# Altium footprint library Active.PcbLib: 36 footprints (part 1 of 3)
Each footprint in its own frame and in the unit in brackets; x right, y up, seen from the top. Pads: shape width x height; smd on the part's side, far side on the other; paste and mask are expansions set on the pad; w line width, h text height; cw(c..) or ccw(c..) is an arc to the next point about the centre after c.
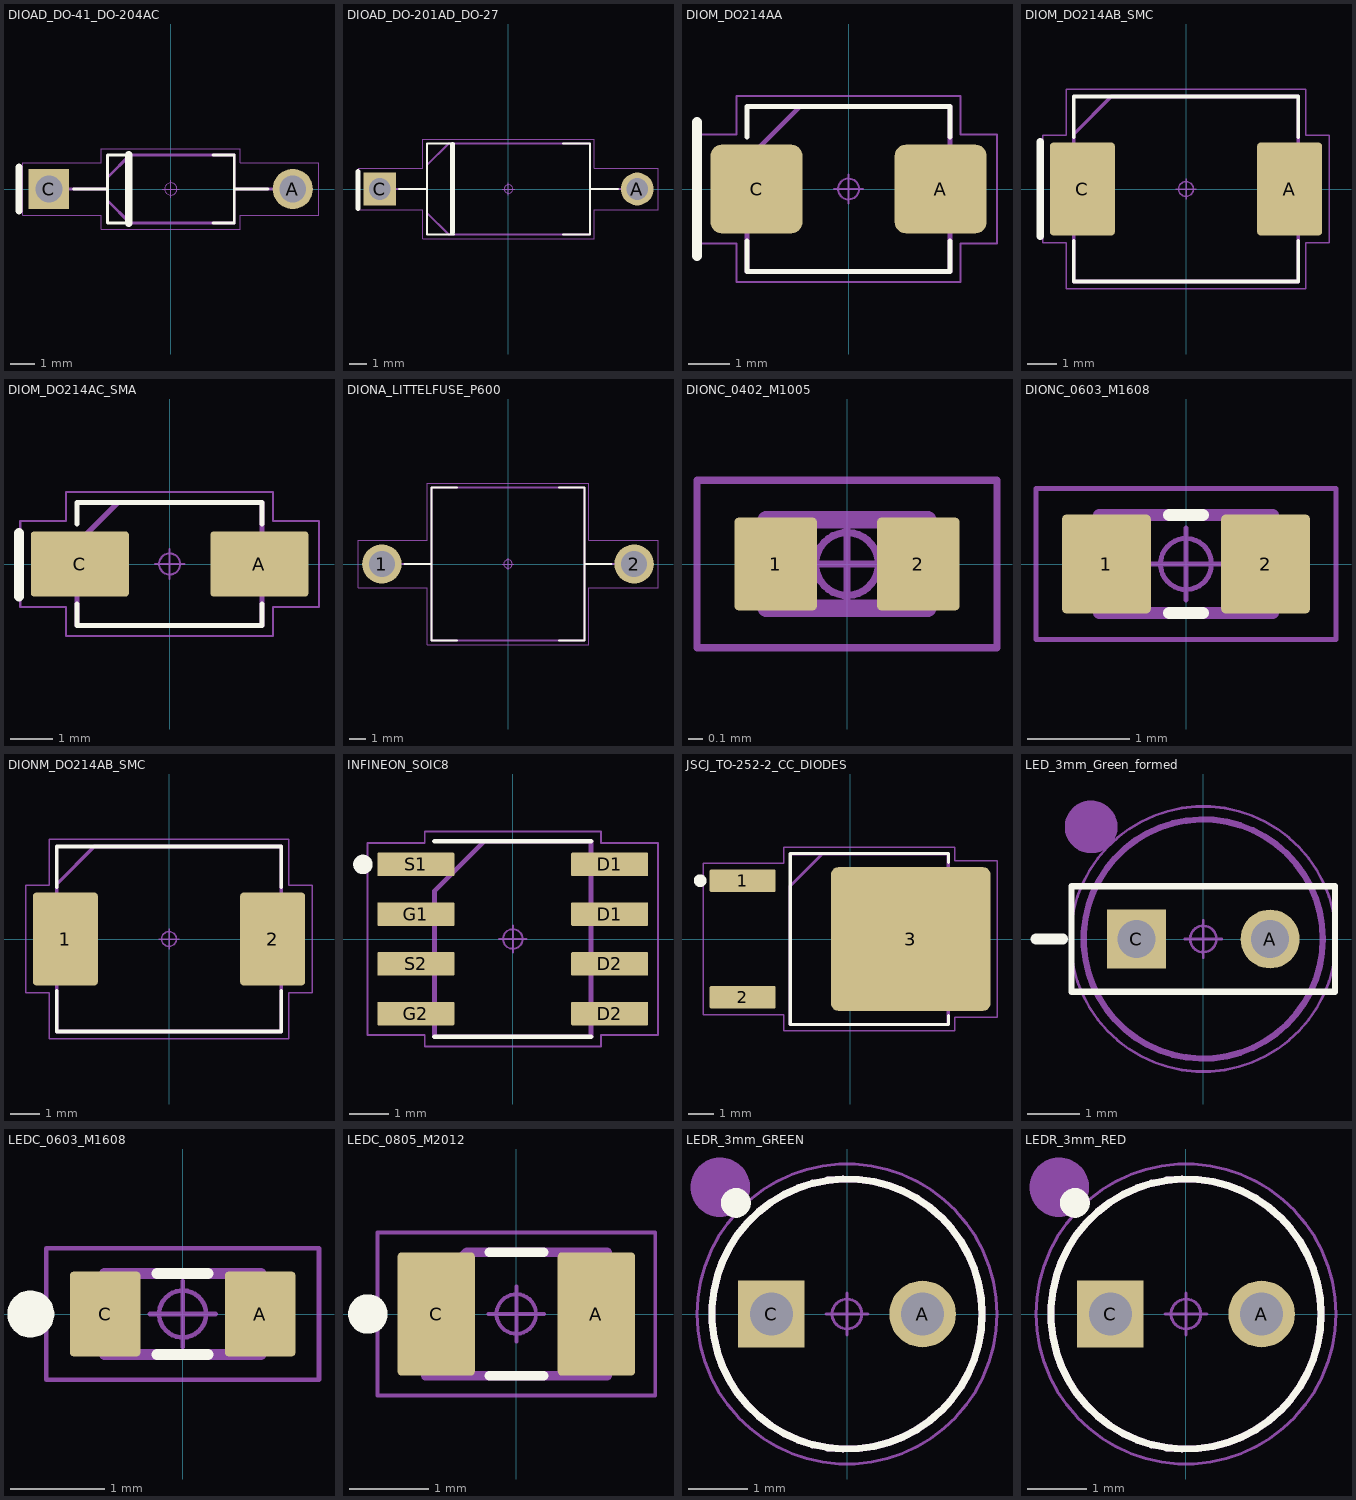
[diagram p0: the footprints below, top view; thin cyan lines are the x and y axes]

## DIOAD_DO-41_DO-204AC [mm] "Diode, Axial; 10.00 mm C X 0.835 mm W 5.20 mm L X 2.80 mm Dia body"
pads (2):
  round 1.65 hole 1.1 paste-2539.97: A(5,0)
  rect 1.65x1.65 hole 1.1 paste-2539.97: C(-5,0)
Top Overlay:
  lines w0.12: -3.99,0 -2.6,0 ; -1.73,-1.4 -2.6,-1.4 -2.6,1.4 -1.73,1.4 ; 1.73,-1.4 2.6,-1.4 2.6,1.4 1.73,1.4 ; 2.6,0 3.99,0
  lines w0.3: -6.223,-0.889 -6.223,0.889 ; -1.73,-1.4 -1.73,1.4
Mechanical 11:
  lines w0.12: -4.175,0 -2.6,0 ; 2.6,0 4.175,0 ; -2.6,-0.467 -2.6,0.467 -1.667,1.4 2.6,1.4 2.6,-1.4 -1.667,-1.4 -2.6,-0.467
  text ".Designator" at -2.251,-0.226 h1
Mechanical 15:
  circle w0.05: c0,0 r0.25
  lines w0.05: -0.35,0 0.35,0 ; 0,-0.35 0,0.35 ; -6.075,-1.075 -2.85,-1.075 -2.85,-1.65 2.85,-1.65 2.85,-1.075 6.075,-1.075 6.075,1.075 2.85,1.075 2.85,1.65 -2.85,1.65 -2.85,1.075 -6.075,1.075 -6.075,-1.075
3D body "DIOAD_DO-41_DO-204AC.STEP": height 4.01, standoff -2, extent -5.45,-1.407 5.45,1.407

## DIOAD_DO-201AD_DO-27 [mm] "Diode, Axial; 15.00 mm C X 1.015 mm W 9.50 mm L X 5.30 mm Dia body"
pads (2):
  round 1.91 hole 1.27 paste-2539.97: A(7.5,0)
  rect 1.91x1.91 hole 1.27 paste-2539.97: C(-7.5,0)
Top Overlay:
  lines w0.12: -6.36,0 -4.75,0 ; -3.17,-2.65 -4.75,-2.65 -4.75,2.65 -3.17,2.65 ; 3.17,-2.65 4.75,-2.65 4.75,2.65 3.17,2.65 ; 4.75,0 6.36,0
  lines w0.3: -8.763,-1.143 -8.763,1.016 ; -3.263,-2.54 -3.263,2.575
Mechanical 11:
  lines w0.12: -6.545,0 -4.75,0 ; 4.75,0 6.545,0 ; -4.75,-1.38 -4.75,1.38 -3.48,2.65 4.75,2.65 4.75,-2.65 -3.48,-2.65 -4.75,-1.38
  text ".Designator" at -2.251,-0.226 h1
Mechanical 15:
  circle w0.05: c0,0 r0.25
  lines w0.05: -0.35,0 0.35,0 ; 0,-0.35 0,0.35 ; -8.705,-1.205 -5,-1.205 -5,-2.9 5,-2.9 5,-1.205 8.705,-1.205 8.705,1.205 5,1.205 5,2.9 -5,2.9 -5,1.205 -8.705,1.205 -8.705,-1.205
3D body "LITTELFUSE_DO201.STEP": height 6.31, standoff -2, extent -8.035,-2.657 8.035,2.657

## DIOM_DO214AA [mm]
pads (2):
  rrect24% 2.2x2.12 smd paste+0 mask+0: A(2.205,0) C(-2.205,0)
Top Overlay:
  lines w0.12: -2.43,-1.24 -2.43,-1.98 2.43,-1.98 2.43,-1.24 ; -2.43,1.24 -2.43,1.98 2.43,1.98 2.43,1.24
  lines w0.24: -3.63,-1.6 -3.63,1.6
Mechanical 11:
  lines w0.12: -2.43,-1.98 2.43,-1.98 2.43,1.98 -1.16,1.98 -2.43,0.71 -2.43,-1.98
  text ".Designator" at -2.251,-0.226 h1
Mechanical 15:
  circle w0.05: c0,0 r0.25
  lines w0.05: -0.35,0 0.35,0 ; 0,-0.35 0,0.35 ; -3.555,-1.31 -2.68,-1.31 -2.68,-2.23 2.68,-2.23 2.68,-1.31 3.555,-1.31 3.555,1.31 2.68,1.31 2.68,2.23 -2.68,2.23 -2.68,1.31 -3.555,1.31 -3.555,-1.31
3D body "DIOM535X362X110L112X207.STEP": height 1.1, standoff 0, extent -2.8,-1.975 2.8,1.975

## DIOM_DO214AB_SMC [mm] "Diode, Molded Body; 7.94 mm L X 5.905 mm W X 2.62 mm H body"
pads (2):
  rrect10% 2.18x3.12 smd: A(3.485,0) C(-3.485,0)
Top Overlay:
  lines w0.12: -3.78,-1.74 -3.78,-3.11 3.78,-3.11 3.78,-1.74 ; -3.78,1.74 -3.78,3.11 3.78,3.11 3.78,1.74
  lines w0.24: -4.9,-1.6 -4.9,1.6
Mechanical 11:
  lines w0.12: -3.78,-3.11 3.78,-3.11 3.78,3.11 -2.51,3.11 -3.78,1.84 -3.78,-3.11
  text ".Designator" at -4.502,-0.452 h2
Mechanical 15:
  circle w0.05: c0,0 r0.25
  lines w0.05: -0.35,0 0.35,0 ; 0,-0.35 0,0.35 ; -4.825,-1.81 -4.03,-1.81 -4.03,-3.36 4.03,-3.36 4.03,-1.81 4.825,-1.81 4.825,1.81 4.03,1.81 4.03,3.36 -4.03,3.36 -4.03,1.81 -4.825,1.81 -4.825,-1.81
3D body "DIOM_DO214AB_SMC.STEP": height 2.62, standoff 0, extent -4.065,-3.11 4.065,3.11

## DIOM_DO214AC_SMA [mm] "Diode, Molded Body; 5.195 mm L X 2.605 mm W X 2.40 mm H body"
pads (2):
  rrect10% 2.33x1.55 smd: A(2.135,0) C(-2.135,0)
Top Overlay:
  lines w0.12: -2.2,-0.955 -2.2,-1.46 2.2,-1.46 2.2,-0.955 ; -2.2,0.955 -2.2,1.46 2.2,1.46 2.2,0.955
  lines w0.24: -3.58,-0.767 -3.58,0.733
Mechanical 11:
  lines w0.12: -2.2,-1.46 -2.2,0.487 -1.227,1.46 2.2,1.46 2.2,-1.46 -2.2,-1.46
  text ".Designator" at -2.251,-0.226 h1
Mechanical 15:
  circle w0.05: c0,0 r0.25
  lines w0.05: -0.35,0 0.35,0 ; 0,-0.35 0,0.35 ; -3.55,-1.025 -3.55,1.025 -2.46,1.025 -2.46,1.71 2.46,1.71 2.46,1.025 3.55,1.025 3.55,-1.025 2.46,-1.025 2.46,-1.71 -2.46,-1.71 -2.46,-1.025 -3.55,-1.025
3D body "DIOM_DO214AC_SMA.STEP": height 2.4, standoff 0, extent -2.795,-1.46 2.795,1.46

## DIONA_LITTELFUSE_P600 [mm] "Diode, Non-Polarized, Axial; 15.00 mm C X 1.29 mm W 9.10 mm L X 9.10 mm Dia body"
pads (2):
  round 2.34 hole 1.56 paste-2539.97: 1(-7.5,0) 2(7.5,0)
Top Overlay:
  lines w0.12: -6.15,0 -4.55,0 ; -3.03,-4.55 -4.55,-4.55 -4.55,4.55 -3.03,4.55 ; 3.03,-4.55 4.55,-4.55 4.55,4.55 3.03,4.55 ; 4.55,0 6.15,0
Mechanical 11:
  lines w0.12: -6.33,0 -4.55,0 ; 4.55,0 6.33,0 ; -4.55,-4.55 4.55,-4.55 4.55,4.55 -4.55,4.55 -4.55,-4.55
  text ".Designator" at -6.762,-0.679 h3
Mechanical 15:
  circle w0.05: c0,0 r0.25
  lines w0.05: -0.35,0 0.35,0 ; 0,-0.35 0,0.35 ; -8.92,-1.42 -4.8,-1.42 -4.8,-4.8 4.8,-4.8 4.8,-1.42 8.92,-1.42 8.92,1.42 4.8,1.42 4.8,4.8 -4.8,4.8 -4.8,1.42 -8.92,1.42 -8.92,-1.42
3D body "LITTELFUSE_P600.STEP": height 10, standoff -2, extent -8.18,-4.55 8.18,4.55

## DIONC_0402_M1005 [mm] "Diode, Non-Polarized, Chip; 1.00 mm L X 0.50 mm W X 0.43 mm H body"
pads (2):
  rrect10% 0.56x0.63 smd: 1(-0.485,0) 2(0.485,0)
Mechanical 11:
  lines w0.12: -0.55,-0.3 0.55,-0.3 0.55,0.3 -0.55,0.3 -0.55,-0.3
  text ".Designator" at -1.798,-0.181 h0.8
Mechanical 15:
  circle w0.05: c0,0 r0.214
  lines w0.05: -0.285,0 0.285,0 ; 0,-0.285 0,0.285 ; -1.02,-0.57 1.02,-0.57 1.02,0.57 -1.02,0.57 -1.02,-0.57
3D body "DIONC_0402_M1005.STEP": height 0.43, standoff 0, extent -0.55,-0.3 0.55,0.3

## DIONC_0603_M1608 [mm] "Diode, Non-Polarized, Chip; 1.60 mm L X 0.825 mm W X 0.55 mm H body"
pads (2):
  rrect10% 0.87x0.97 smd: 1(-0.78,0) 2(0.78,0)
Top Overlay:
  lines w0.12: -0.165,-0.48 0.165,-0.48 ; -0.165,0.48 0.165,0.48
Mechanical 11:
  lines w0.12: -0.85,-0.48 0.85,-0.48 0.85,0.48 -0.85,0.48 -0.85,-0.48
  text ".Designator" at -2.251,-0.226 h1
Mechanical 15:
  circle w0.05: c0,0 r0.25
  lines w0.05: -0.35,0 0.35,0 ; 0,-0.35 0,0.35 ; -1.47,-0.74 1.47,-0.74 1.47,0.74 -1.47,0.74 -1.47,-0.74
3D body "DIONC_0603_M1608.STEP": height 0.55, standoff 0, extent -0.85,-0.475 0.85,0.475

## DIONM_DO214AB_SMC [mm] "Diode, Molded Body; 7.94 mm L X 5.905 mm W X 2.62 mm H body"
pads (2):
  rrect10% 2.18x3.12 smd: 1(-3.485,0) 2(3.485,0)
Top Overlay:
  lines w0.12: -3.78,-1.74 -3.78,-3.11 3.78,-3.11 3.78,-1.74 ; -3.78,1.74 -3.78,3.11 3.78,3.11 3.78,1.74
Mechanical 11:
  lines w0.12: -3.78,-3.11 3.78,-3.11 3.78,3.11 -2.51,3.11 -3.78,1.84 -3.78,-3.11
  text ".Designator" at -4.502,-0.452 h2
Mechanical 15:
  circle w0.05: c0,0 r0.25
  lines w0.05: -0.35,0 0.35,0 ; 0,-0.35 0,0.35 ; -4.825,-1.81 -4.03,-1.81 -4.03,-3.36 4.03,-3.36 4.03,-1.81 4.825,-1.81 4.825,1.81 4.03,1.81 4.03,3.36 -4.03,3.36 -4.03,1.81 -4.825,1.81 -4.825,-1.81
3D body "DIOM_DO214AB_SMC.STEP": height 2.62, standoff 0, extent -4.065,-3.11 4.065,3.11

## INFINEON_SOIC8 [mm] "Small Outline IC (SOIC), 1.27 mm pitch; 8 pin, 4.90 mm L X 3.90 mm W X 1.75 mm H body"
pads (8):
  rrect10% 1.97x0.6 smd: D1(2.475,0.635) D1(2.475,1.905) D2(2.475,-1.905) D2(2.475,-0.635) G1(-2.475,0.635) G2(-2.475,-1.905) S1(-2.475,1.905) S2(-2.475,-0.635)
Top Overlay:
  circle w0.25: c-3.83,1.905 r0.125
  lines w0.12: -2,-2.5 2,-2.5 ; -2,2.5 2,2.5
Mechanical 11:
  lines w0.12: -2,-2.5 2,-2.5 2,2.5 -0.73,2.5 -2,1.23 -2,-2.5
  text ".Designator" at -2.251,-0.226 h1
Mechanical 15:
  circle w0.05: c0,0 r0.25
  lines w0.05: -0.35,0 0.35,0 ; 0,-0.35 0,0.35 ; -3.71,-2.455 -2.25,-2.455 -2.25,-2.75 2.25,-2.75 2.25,-2.455 3.71,-2.455 3.71,2.455 2.25,2.455 2.25,2.75 -2.25,2.75 -2.25,2.455 -3.71,2.455 -3.71,-2.455
3D body "INFINEON_SOIC8.STEP": height 1.75, standoff 0, extent -3.1,-2.5 3.1,2.5

## JSCJ_TO-252-2_CC_DIODES [mm] "DPAK, 4.57 mm pitch; 2 pin, 6.10 mm L X 6.60 mm W X 2.40 mm H body"
pads (3):
  rrect10% 2.59x0.87 smd: 1(-4.21,2.285) 2(-4.21,-2.285)
  rrect10% 6.26x5.63 smd paste-6.26: 3(2.38,0)
Top Overlay:
  circle w0.25: c-5.875,2.285 r0.125
  lines w0.12: 3.855,-2.995 3.855,-3.35 -2.345,-3.35 -2.345,3.35 3.855,3.35 3.855,2.995
Top Paste:
  region: 3.715,1.23 3.715,2.53 5.225,2.53 5.225,1.23
  region: 1.625,1.23 1.625,2.53 3.135,2.53 3.135,1.23
  region: -0.465,1.23 -0.465,2.53 1.045,2.53 1.045,1.23
  region: 3.715,-0.65 3.715,0.65 5.225,0.65 5.225,-0.65
  region: 1.625,-0.65 1.625,0.65 3.135,0.65 3.135,-0.65
  region: -0.465,-0.65 -0.465,0.65 1.045,0.65 1.045,-0.65
  region: 3.715,-2.53 3.715,-1.23 5.225,-1.23 5.225,-2.53
  region: 1.625,-2.53 1.625,-1.23 3.135,-1.23 3.135,-2.53
  region: -0.465,-2.53 -0.465,-1.23 1.045,-1.23 1.045,-2.53
Mechanical 11:
  lines w0.12: -2.345,-3.35 3.855,-3.35 3.855,3.35 -1.075,3.35 -2.345,2.08 -2.345,-3.35
  text ".Designator" at -2.251,-0.226 h1
Mechanical 12:
  lines w0.025: -2.295,-3.3 3.805,-3.3 3.805,3.3 -2.295,3.3 -2.295,-3.3
Mechanical 15:
  circle w0.05: c0,0 r0.25
  lines w0.05: -0.35,0 0.35,0 ; 0,-0.35 0,0.35 ; -5.755,-2.97 -2.6,-2.97 -2.6,-3.6 4.11,-3.6 4.11,-3.065 5.76,-3.065 5.76,3.065 4.11,3.065 4.11,3.6 -2.6,3.6 -2.6,2.97 -5.755,2.97 -5.755,-2.97
3D body "JSCJ_TO-252-2_CC_DIODES.STEP": height 2.4, standoff 0, extent -5.156,-3.35 5.156,3.35

## LED_3mm_Green_formed [mm]
pads (2):
  round 1.12 hole 0.72 paste-2539.97: A(1.27,0)
  rect 1.12x1.12 hole 0.72 paste-2539.97: C(-1.27,0)
Top Overlay:
  lines w0.12: -2.5,-1 -2.5,1 2.5,1 2.5,-1 -2.5,-1
  lines w0.2: -3.175,0 -2.667,0
Mechanical 11:
  circle w0.12: c0,0 r2.27
  circle w0.5: c-2.128,2.128 r0.25
  text ".Designator" at -2.251,-0.226 h1
Mechanical 15:
  circle w0.05: c0,0 r2.52
  circle w0.05: c0,0 r0.25
  lines w0.05: -0.35,0 0.35,0 ; 0,-0.35 0,0.35
3D body "L-113GDT.stp": height 9, standoff -1.5, extent -2.5,-3.25 2.5,7

## LEDC_0603_M1608 [mm]
pads (2):
  rrect10% 0.75x0.9 smd: A(0.825,0) C(-0.825,0)
Top Overlay:
  circle w0.25: c-1.615,0 r0.125
  lines w0.12: -0.27,-0.43 0.27,-0.43 ; -0.27,0.43 0.27,0.43
Mechanical 11:
  lines w0.12: -0.83,-0.43 -0.83,0.43 0.83,0.43 0.83,-0.43 -0.83,-0.43
  text ".Designator" at -1.821,-0.223 h1
Mechanical 15:
  circle w0.05: c0,0 r0.25
  lines w0.05: -0.35,0 0.35,0 ; 0,-0.35 0,0.35 ; -1.45,-0.7 -1.45,0.7 1.45,0.7 1.45,-0.7 -1.45,-0.7
3D body "LED 0603 SMD.STEP": height 0.53, standoff -0.01, extent -0.8,-0.4 0.8,0.4

## LEDC_0805_M2012 [mm] "LED, Chip; 2.00 mm L X 1.25 mm W X 1.00 mm H body"
pads (2):
  rrect10% 0.98x1.56 smd: A(1.015,0) C(-1.015,0)
Top Overlay:
  circle w0.25: c-1.88,0 r0.125
  lines w0.12: -0.345,-0.78 0.345,-0.78 ; -0.345,0.78 0.345,0.78
Mechanical 11:
  lines w0.12: -1.15,-0.78 -1.15,0.26 -0.63,0.78 1.15,0.78 1.15,-0.78 -1.15,-0.78
  text ".Designator" at -1.821,-0.223 h1
Mechanical 15:
  circle w0.05: c0,0 r0.25
  lines w0.05: -0.35,0 0.35,0 ; 0,-0.35 0,0.35 ; -1.76,-1.03 -1.76,1.03 1.76,1.03 1.76,-1.03 -1.76,-1.03
3D body "LEDC_0805_M2012.STEP": height 1.1, standoff 0, extent -1.01,-0.625 1.01,0.625

## LEDR_3mm_GREEN [mm] "Radial (LED); 2.54 mm C X 4.54 mm Dia X 5.50 mm H body GREEN"
pads (2):
  round 1.12 hole 0.72 paste-2539.97: A(1.27,0)
  rect 1.12x1.12 hole 0.72 paste-2539.97: C(-1.27,0)
Top Overlay:
  circle w0.25: c-1.867,1.867 r0.125
  circle w0.12: c0,0 r2.27
Mechanical 11:
  circle w0.5: c-2.128,2.128 r0.25
  circle w0.12: c0,0 r2.27
  text ".Designator" at -2.251,-0.226 h1
Mechanical 15:
  circle w0.05: c0,0 r0.25
  circle w0.05: c0,0 r2.52
  lines w0.05: -0.35,0 0.35,0 ; 0,-0.35 0,0.35
3D body "LEDRD254W50D454H550.STEP": height 19.5, standoff 12, extent -2.27,-2.27 2.27,2.27

## LEDR_3mm_RED [mm] "Radial (LED); 2.54 mm C X 4.54 mm Dia X 5.50 mm H body"
pads (2):
  round 1.12 hole 0.72 paste-2539.97: A(1.27,0)
  rect 1.12x1.12 hole 0.72 paste-2539.97: C(-1.27,0)
Top Overlay:
  circle w0.25: c-1.867,1.867 r0.125
  circle w0.12: c0,0 r2.27
Mechanical 11:
  circle w0.5: c-2.128,2.128 r0.25
  circle w0.12: c0,0 r2.27
  text ".Designator" at -2.251,-0.226 h1
Mechanical 15:
  circle w0.05: c0,0 r0.25
  circle w0.05: c0,0 r2.52
  lines w0.05: -0.35,0 0.35,0 ; 0,-0.35 0,0.35
3D body "LEDRD254W50D454H550.STEP": height 19.5, standoff 12, extent -2.27,-2.27 2.27,2.27